# Altium schematic symbol library TPS54395PWPR.SchLib: 1 symbol
Pins are listed as number, name and electrical type; pins without a type are passive.

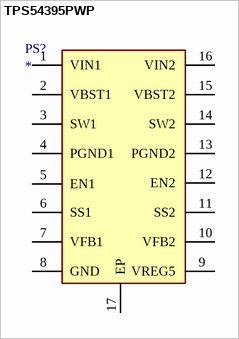
[diagram p0: symbol TPS54395PWP]

## TPS54395PWP
designator PS?
Power Supply; Manufacturer_Name: Texas Instruments; Manufacturer_Part_Number: TPS54395PWP; Datasheet Link: http://www.ti.com/lit/ds/symlink/tps54395.pdf; Height: 1.2mm; Arrow Part Number: TPS54395PWP; Arrow Price/Stock: https://www.arrow.com/en/products/tps54395pwp/texas-instruments; Mouser Part Number: 595-TPS54395PWP; Mouser Price/Stock: https://www.mouser.com/Search/Refine.aspx?Keyword=595-TPS54395PWP
footprint SOP65P640X120-17N
pins: 1 VIN1, 2 VBST1, 3 SW1, 4 PGND1, 5 EN1, 6 SS1, 7 VFB1, 8 GND, 9 VREG5, 10 VFB2, 11 SS2, 12 EN2, 13 PGND2, 14 SW2, 15 VBST2, 16 VIN2, 17 EP